# EAGLE library part AP63203WU-7 (library AP63203WU-7)
Switching Voltage Regulators DCDC Conv HV Buck TSOT26 T&R 3K Source: Datasheet <https://www.diodes.com/assets/Datasheets/AP63200-AP63201-AP63203-AP63205.pdf>
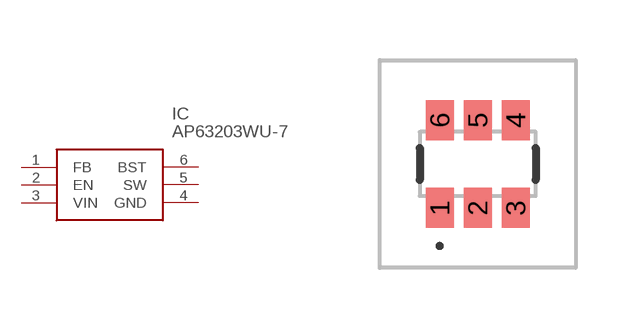
[diagram p0: symbol with the pads of AP63203WU7; footprint AP63203WU7]

Designator prefix IC

## AP63203WU-7 (Description: Switching Voltage Regulators DCDC Conv HV Buck TSOT26 T&R 3K; Height: 1mm; Manufacturer_Name: Diodes Incorporated; Manufacturer_Part_Number: AP63203WU-7; Mouser_Part_Number: 621-AP63203WU-7; Mouser_Price-Stock: https://www.mouser.co.uk/ProductDetail/Diodes-Incorporated/AP63203WU-7?qs=u16ybLDytRZ1JqxbuLkMJw%3D%3D)  [AP63203WU7]
1  FB
2  EN
3  VIN
4  GND
5  SW
6  BST

## Footprint AP63203WU7 (pad centres in mm)
AP63203WU-7-5
smd 0.7 x 1: 1 -0.95,-1.099; 2 0,-1.099; 3 0.95,-1.099; 4 0.95,1.099; 5 0,1.099; 6 -0.95,1.099